# Altium schematic symbol library Switch_C&K_1101M2S3CQE2_eec.SchLib: 1 symbol
Pins are listed as number, name and electrical type; pins without a type are passive.

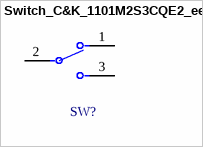
[diagram p0: symbol Switch_C&K_1101M2S3CQE2_eec]

## Switch_C&K_1101M2S3CQE2_eec
designator SW?
SWITCH SLIDE SPDT 6A 120V; Part Number: 1101M2S3CQE2; Manufacturer: C&K; helpURL: https://upverter.com/upn/revision/403d1beb71d14239/; ComponentLink2Description: Datasheet; Temperature: -30° to +65°; Package: CONN_PTH_BNC; Supplier 2: Mouser; Price: 2.74673798286; Supplier 1: Digi-Key; ComponentLink1URL: https://upverter.com/upn/revision/403d1beb71d14239/; Supplier Part Number 2: 611-1101M2S3CQE2; Supplier Part Number 1: CKN5001-ND; ComponentLink1Description: Upverter; ComponentLink2URL: https://upverter.com/datasheet/a7139684b05aeea94593aa7ac14a507e079abd51.pdf; RoHS: TRUE; Mouser Part Number: 611-1101M2S3CQE2; Digikey Description: SWITCH SLIDE SPDT 6A 120V; Digikey Part Number: CKN5001-ND; Lead Free: yes; Temperature Range Low: -30°; Temperature Range High: +65°
footprint C&K_1101M2S3CQE2_0
pins: 1, 2 COM, 3